# EAGLE library part 25LC256-I/STG (library Microchip_By_element14_Batch_1)
IC EEPROM
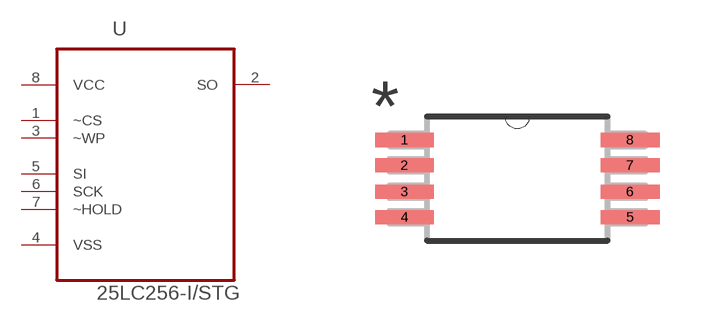
[diagram p167: symbol with the pads of SOP65P640X120-8N; footprint SOP65P640X120-8N]

Designator prefix -

## 25LC256-I/STG (DESCRIPTION: EEPROM; MPN: 25LC256-I/STG; OC_FARNELL: -; OC_NEWARK: 92C7461; PACKAGE: TSSOP-8; SUPPLIER: MICROCHIP)  [SOP65P640X120-8N]
1  ~CS  in
2  SO  out
3  ~WP  in
4  VSS  pas
5  SI  in
6  SCK  in
7  ~HOLD  in
8  VCC  pwr

## Footprint SOP65P640X120-8N (pad centres in mm)
smd 1.473 x 0.356: 1 -2.819,0.965; 2 -2.819,0.33; 3 -2.819,-0.33; 4 -2.819,-0.965; 5 2.819,-0.965; 6 2.819,-0.33; 7 2.819,0.33; 8 2.819,0.965